# EAGLE library part PINHDR_1X8 (library Dal_V2)
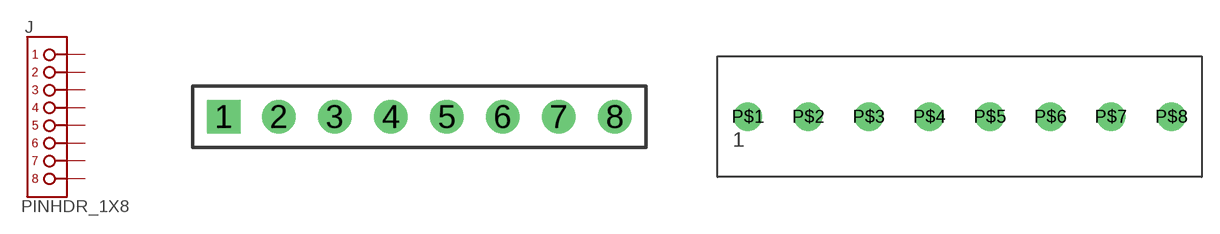
[diagram p20: symbol with the pads of PINHDR_TH_100_1X8; footprints PINHDR_TH_100_1X8, TERMBLOCK_TH_200_1X8]

Designator prefix J

## PINHDR_1X8-TH  [PINHDR_TH_100_1X8]
1  1  pas
2  2  pas
3  3  pas
4  4  pas
5  5  pas
6  6  pas
7  7  pas
8  8  pas

## PINHDR_1X8-200  [TERMBLOCK_TH_200_1X8]
P$1  1  pas
P$2  2  pas
P$3  3  pas
P$4  4  pas
P$5  5  pas
P$6  6  pas
P$7  7  pas
P$8  8  pas

## PINHDR_1X8-PH2  [PH2_TH_SIDE_200_1X8]
P$1  1  pas
P$2  2  pas
P$3  3  pas
P$4  4  pas
P$5  5  pas
P$6  6  pas
P$7  7  pas
P$8  8  pas
PA$1  1  pas
PA$2  2  pas
PA$3  3  pas
PA$4  4  pas
PA$5  5  pas
PA$6  6  pas
PA$7  7  pas
PA$8  8  pas

## PINHDR_1X8-PH1  [PHOENIX_TH_SIDE_200_1X8]
Pads as for TERMBLOCK_TH_200_1X8

## PINHDR_1X8-JST  [JST-XH_098_VERT_1X8]
Pads as for PINHDR_TH_100_1X8

## Footprint PINHDR_TH_100_1X8 (pad centres in mm)
drill 1 square: 1 0.02,0
drill 1: 2 2.52,0; 3 5.06,0; 4 7.6,0; 5 10.14,0; 6 12.68,0; 7 15.22,0; 8 17.76,0

## Footprint TERMBLOCK_TH_200_1X8 (pad centres in mm)
drill 1.6: P$1 0,0; P$2 5.08,0; P$3 10.16,0; P$4 15.24,0; P$5 20.32,0; P$6 25.4,0; P$7 30.48,0; P$8 35.56,0

## Footprint PH2_TH_SIDE_200_1X8 (pad centres in mm)
PHOENIX Header - 2 Pos Mounting can be vertial or horzantial. If Horz version is used then must leave at least .375 for plug. Can be mounted at edge of PCM for either vert or horz version.
drill 1.4: P$1 0,0; P$2 5.08,0; P$3 10.16,0; P$4 15.24,0; P$5 20.32,0; P$6 25.4,0; P$7 30.48,0; P$8 35.56,0; PA$1 0,5.08; PA$2 5.08,5.08; PA$3 10.16,5.08; PA$4 15.24,5.08; PA$5 20.32,5.08; PA$6 25.4,5.08; PA$7 30.48,5.08; PA$8 35.56,5.08

## Footprint PHOENIX_TH_SIDE_200_1X8 (pad centres in mm)
PHOENIX Header - 2 Pos Mounting can be vertial or horzantial. If Horz version is used then must leave at least .375 for plug. Can be mounted at edge of PCM for either vert or horz version.
drill 1.5: P$1 0,0; P$2 5.08,0; P$3 10.16,0; P$4 15.24,0; P$5 20.32,0; P$6 25.4,0; P$7 30.48,0; P$8 35.56,0

## Footprint JST-XH_098_VERT_1X8 (pad centres in mm)
JST Connector, XH Series, 0.098 Inch, 1x6
drill 1 square: 1 0,0
drill 1: 2 -2.5,0; 3 -5,0; 4 -7.5,0; 5 -10,0; 6 -12.5,0; 7 -15,0; 8 -17.5,0